# Altium schematic symbol library Conn_TE_1776275-3_eec.SchLib: 1 symbol
Pins are listed as number, name and electrical type; pins without a type are passive.

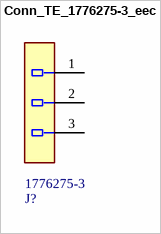
[diagram p0: symbol Conn_TE_1776275-3_eec]

## Conn_TE_1776275-3_eec
designator J?  Part Number: 1776275-3
CONN TERM BLOCK 3POS SIDE ENT 3.5MM; Manufacturer: TE; Voltage: 250V; helpURL: https://upverter.com/upn/revision/a0ef539887363a71/; ComponentLink2Description: Datasheet; Temperature: -55°C to +105°C; Package: HDR03; Supplier 2: Mouser; Price: 0.565609083036; Supplier 1: Digi-Key; ComponentLink1URL: https://upverter.com/upn/revision/a0ef539887363a71/; Supplier Part Number 2: 571-1776275-3; Supplier Part Number 1: A98037-ND; ComponentLink1Description: Upverter; ComponentLink2URL: http://www.te.com/usa-en/product-1776275-3.html#pdp-docs-features; RoHS: TRUE; Mouser Part Number: 571-1776275-3; Temperature Range High: +105°C; Digikey Description: CONN TERM BLOCK 3POS SIDE ENT 3.5MM; Digikey Part Number: A98037-ND; Temperature Range Low: -55°C; Lead Free: yes
footprint TE_1776275-3_0
pins: 1, 2, 3